# EAGLE library part HLMP-2820 (library RoboJackets-LEDs)
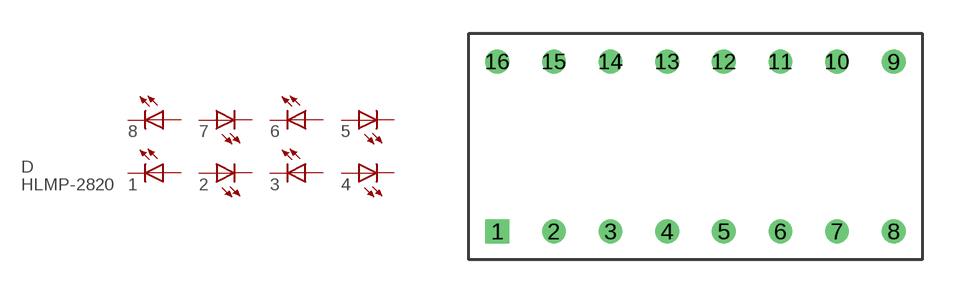
[diagram p1: symbol with the pads of HLMP-2820; footprint HLMP-2820]

Designator prefix D

## HLMP-2820  [HLMP-2820]
1  1  pas
2  2  pas
3  3  pas
4  4  pas
5  5  pas
6  6  pas
7  7  pas
8  8  pas
9  9  pas
10  10  pas
11  11  pas
12  12  pas
13  13  pas
14  14  pas
15  15  pas
16  16  pas

## Footprint HLMP-2820 (pad centres in mm)
drill 0.559 square: 1 1.27,1.27
drill 0.559: 2 3.81,1.27; 3 6.35,1.27; 4 8.89,1.27; 5 11.43,1.27; 6 13.97,1.27; 7 16.51,1.27; 8 19.05,1.27; 9 19.05,8.89; 10 16.51,8.89; 11 13.97,8.89; 12 11.43,8.89; 13 8.89,8.89; 14 6.35,8.89; 15 3.81,8.89; 16 1.27,8.89